# Altium integrated library LD39200PU33R.IntLib: 1 symbol
Pins are listed as number, name and electrical type; pins without a type are passive.

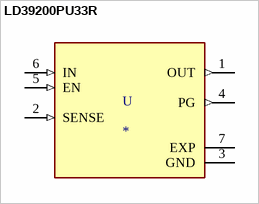
[diagram p0: symbol LD39200PU33R]

## LD39200PU33R
designator U
Linear Voltage Regulator IC 1 Output 2A 6-DFN _3x3_; MP: LD39200PU33R; MF: STMicroelectronics; Package: DFN-6 STMicroelectronics; SnapEDA_Link: https://www.snapeda.com/parts/LD39200PU33R/STMicroelectronics/view-part/482679/?ref=snap; Value: *; Availability: Unavailable; Price: None
footprint SON95P300X300X100-7N
pins: 1 OUT (out), 2 SENSE (in), 3 GND (power), 4 PG (out), 5 EN (in), 6 IN (in), 7 EXP (power)